# Altium footprint library Symbol.PcbLib: 206 footprints (part 14 of 15)
Each footprint in its own frame and in the unit in brackets; x right, y up, seen from the top. Pads: shape width x height; smd on the part's side, far side on the other; paste and mask are expansions set on the pad; w line width, h text height; cw(c..) or ccw(c..) is an arc to the next point about the centre after c.
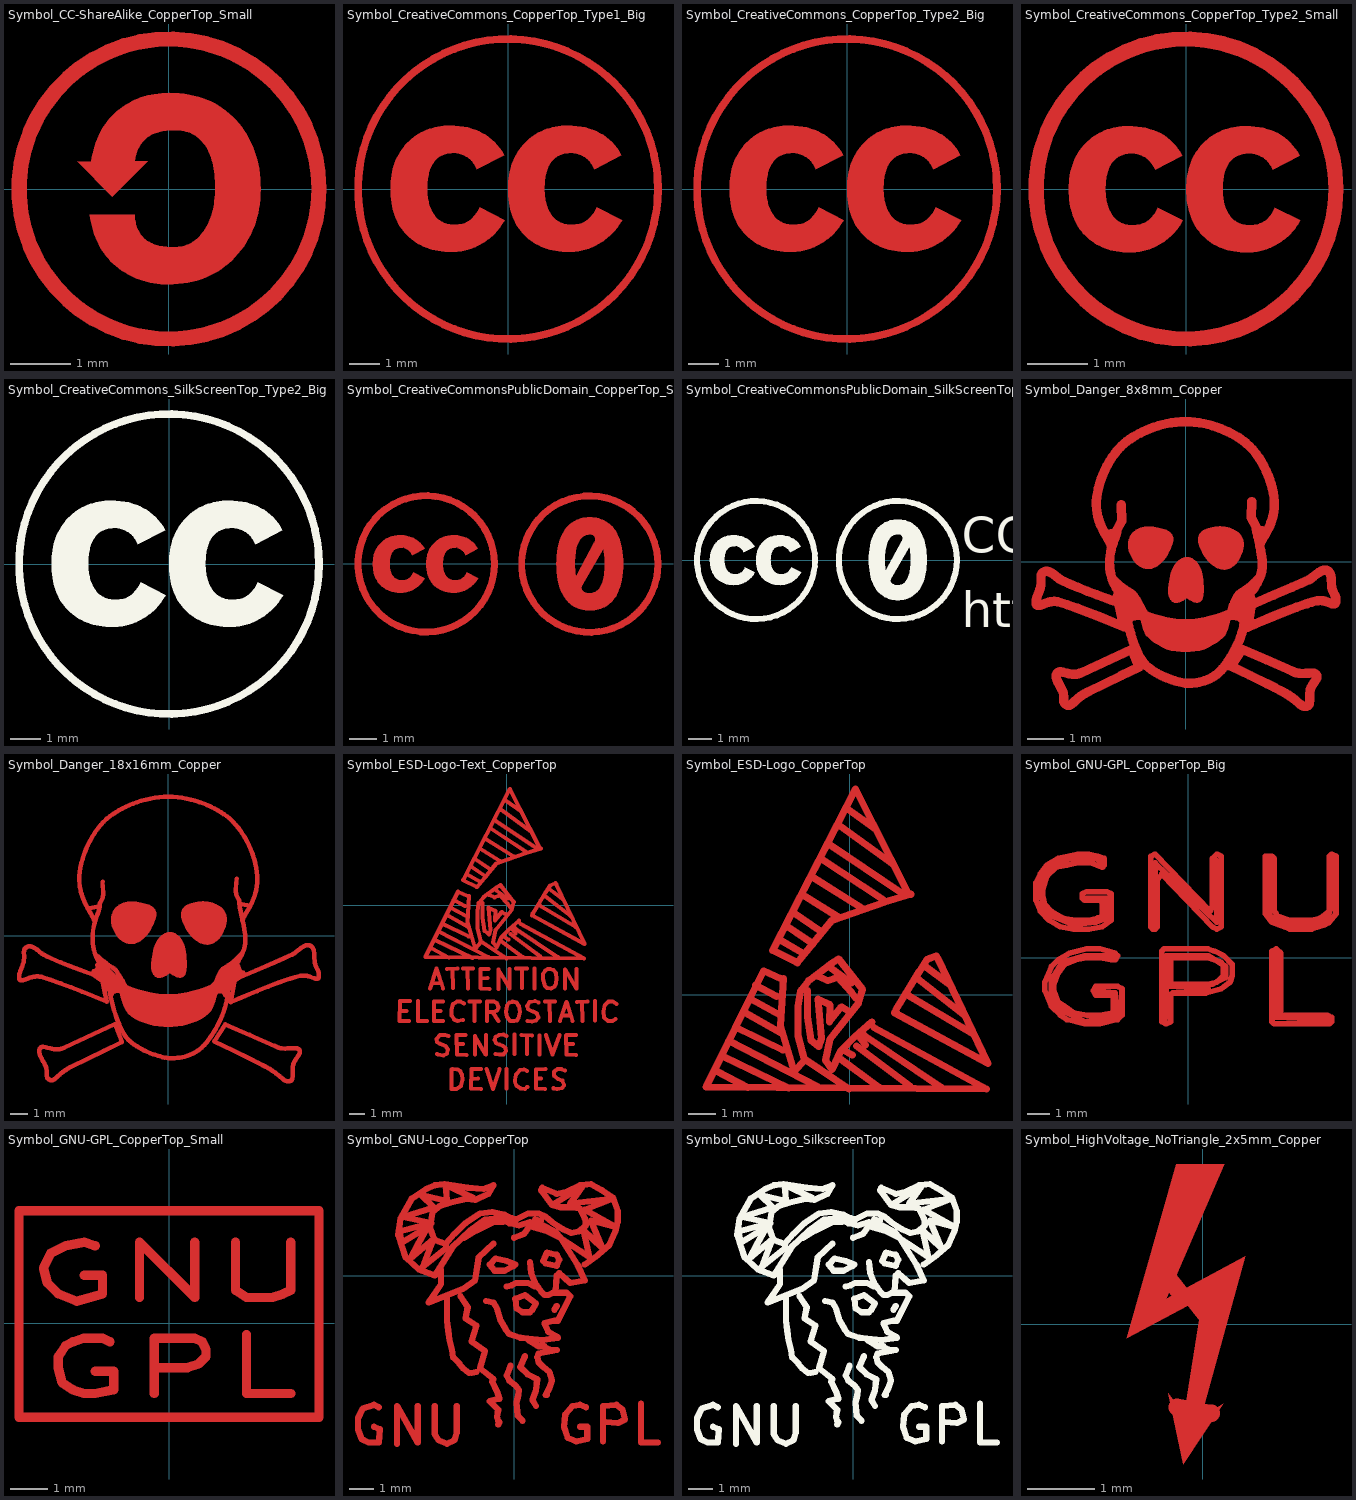
[diagram p13: the footprints below, top view; thin cyan lines are the x and y axes]

## Symbol_CC-ShareAlike_CopperTop_Small [mm]
F.Cu:
  circle w0.254: c0.001,0 r2.5
  region: 256 vertices and 0 holes, not listed, extent -1.531,-1.59 1.527,1.601

## Symbol_CreativeCommons_CopperTop_Type1_Big [mm]
F.Cu:
  circle w0.254: c0,0 r5
  region: 230 vertices and 0 holes, not listed, extent -3.913,-2.098 -0.115,2.111
  region: 231 vertices and 0 holes, not listed, extent 0.006,-2.098 3.803,2.111
  text "Commons" at 6.2,-4.575 h3
  text "Creative" at 6.2,0.354 h3

## Symbol_CreativeCommons_CopperTop_Type2_Big [mm]
F.Cu:
  circle w0.254: c0,0 r5
  region: 230 vertices and 0 holes, not listed, extent -3.913,-2.098 -0.115,2.111
  region: 231 vertices and 0 holes, not listed, extent 0.006,-2.098 3.803,2.111

## Symbol_CreativeCommons_CopperTop_Type2_Small [mm]
F.Cu:
  circle w0.254: c0,0 r2.5
  region: 230 vertices and 0 holes, not listed, extent -1.953,-1.057 -0.054,1.048
  region: 232 vertices and 0 holes, not listed, extent 0.007,-1.057 1.905,1.048

## Symbol_CreativeCommons_SilkScreenTop_Type2_Big [mm]
F.SilkS:
  drawing of 3 lines, arcs and shapes, not listed

## Symbol_CreativeCommonsPublicDomain_CopperTop_Small [mm]
F.Cu:
  circle w0.254: c-19,0 r2.5
  circle w0.254: c-13,-0.01 r2.5
  region: 230 vertices and 0 holes, not listed, extent -20.953,-1.057 -19.054,1.048
  region: 232 vertices and 0 holes, not listed, extent -18.993,-1.057 -17.095,1.048
  region: 106 vertices and 2 holes, not listed, extent -14.224,-1.706 -11.776,1.706
  text "CC-PD / Public domain" at -10.3,0.307 h1.5
  text "https://creativecommons.org" at -10.3,-2.835 h1.5

## Symbol_CreativeCommonsPublicDomain_SilkScreenTop_Small [mm]
F.SilkS:
  drawing of 5 lines, arcs and shapes, not listed
  text "https://creativecommons.org" at -10.3,-2.835 h1.5
  text "CC-PD / Public domain" at -10.3,0.307 h1.5

## Symbol_Danger_8x8mm_Copper [mm]
F.Cu:
  region: -1.2,-1.14 -1.151,-1.315 -1.13,-1.6 -1.29,-1.59 -1.43,-1.61 -1.53,-1.74 -1.708,-0.912
  region: 1.53,-1.74 1.43,-1.61 1.29,-1.59 1.13,-1.6 1.151,-1.315 1.2,-1.14 1.708,-0.912
  region: -0.988,-1.378 -0.826,-1.434 -0.666,-1.481 -0.506,-1.519 -0.346,-1.548 -0.187,-1.568 0,-1.578 0,-2.46 -0.13,-2.46 -0.254,-2.451 -0.389,-2.429 -0.521,-2.398 -0.64,-2.34 -0.75,-2.27 -0.85,-2.21 -0.92,-2.16 -1.01,-2.08 -1.08,-2.01 -1.16,-1.85 -1.2,-1.7 -1.24,-1.55 -1.257,-1.407 -1.151,-1.315
  region: 1.257,-1.407 1.24,-1.55 1.2,-1.7 1.16,-1.85 1.08,-2.01 1.01,-2.08 0.92,-2.16 0.85,-2.21 0.75,-2.27 0.64,-2.34 0.521,-2.398 0.389,-2.429 0.254,-2.451 0.13,-2.46 0,-2.46 0,-1.578 0.187,-1.568 0.346,-1.548 0.506,-1.519 0.666,-1.481 0.826,-1.434 0.988,-1.378 1.151,-1.315
  region: 0.098,0.112 0.138,0.101 0.178,0.086 0.216,0.065 0.253,0.039 0.288,0.008 0.321,-0.029 0.352,-0.07 0.38,-0.116 0.406,-0.167 0.429,-0.222 0.448,-0.283 0.464,-0.348 0.476,-0.418 0.483,-0.493 0.487,-0.572 0.493,-0.704 0.494,-0.769 0.494,-0.832 0.49,-0.892 0.487,-0.92 0.483,-0.947 0.477,-0.973 0.471,-0.997 0.463,-1.019 0.453,-1.04 0.443,-1.059 0.43,-1.075 0.416,-1.09 0.4,-1.101 0.382,-1.111 0.362,-1.117 0.34,-1.121 0.316,-1.122 0.289,-1.119 0.26,-1.113 0.229,-1.104 0.195,-1.091 0.158,-1.074 0.118,-1.054 0.076,-1.029 0.031,-1 -0.002,-1.024 -0.034,-1.045 -0.065,-1.064 -0.096,-1.08 -0.125,-1.094 -0.154,-1.105 -0.181,-1.113 -0.208,-1.119 -0.233,-1.122 -0.258,-1.123 -0.281,-1.122 -0.303,-1.118 -0.324,-1.112 -0.344,-1.103 -0.362,-1.092 -0.38,-1.078 -0.395,-1.062 -0.41,-1.044 -0.423,-1.024 -0.434,-1.001 -0.444,-0.976 -0.453,-0.949 -0.46,-0.919 -0.465,-0.888 -0.469,-0.854 -0.471,-0.818 -0.471,-0.779 -0.469,-0.739 -0.466,-0.696 -0.461,-0.652 -0.454,-0.605 -0.444,-0.556 -0.432,-0.47 -0.416,-0.391 -0.397,-0.317 -0.374,-0.249 -0.348,-0.187 -0.319,-0.131 -0.288,-0.081 -0.255,-0.037 -0.22,0.002 -0.183,0.035 -0.145,0.062 -0.105,0.084 -0.065,0.101 -0.024,0.111 0.017,0.117 0.058,0.117
  region: -0.967,0.953 -0.933,0.951 -0.871,0.945 -0.81,0.938 -0.749,0.928 -0.69,0.915 -0.634,0.9 -0.58,0.883 -0.53,0.862 -0.485,0.838 -0.464,0.825 -0.444,0.811 -0.425,0.797 -0.408,0.781 -0.393,0.765 -0.379,0.748 -0.367,0.73 -0.356,0.71 -0.347,0.69 -0.341,0.67 -0.336,0.648 -0.333,0.625 -0.333,0.601 -0.334,0.576 -0.338,0.55 -0.345,0.523 -0.362,0.465 -0.383,0.405 -0.408,0.343 -0.437,0.282 -0.469,0.221 -0.504,0.161 -0.543,0.104 -0.584,0.049 -0.628,-0.003 -0.676,-0.05 -0.7,-0.072 -0.725,-0.092 -0.751,-0.111 -0.778,-0.129 -0.805,-0.145 -0.832,-0.159 -0.861,-0.171 -0.889,-0.181 -0.919,-0.19 -0.949,-0.196 -0.979,-0.2 -1.01,-0.202 -1.041,-0.201 -1.071,-0.198 -1.101,-0.193 -1.13,-0.186 -1.159,-0.176 -1.186,-0.165 -1.214,-0.152 -1.24,-0.138 -1.266,-0.121 -1.291,-0.103 -1.315,-0.084 -1.338,-0.063 -1.36,-0.041 -1.381,-0.018 -1.402,0.006 -1.421,0.031 -1.439,0.058 -1.457,0.085 -1.473,0.112 -1.488,0.141 -1.501,0.169 -1.514,0.199 -1.525,0.228 -1.535,0.258 -1.544,0.289 -1.551,0.319 -1.557,0.349 -1.561,0.379 -1.564,0.409 -1.566,0.439 -1.566,0.468 -1.564,0.497 -1.561,0.525 -1.557,0.552 -1.551,0.579 -1.544,0.604 -1.536,0.629 -1.527,0.654 -1.517,0.677 -1.506,0.699 -1.493,0.721 -1.48,0.742 -1.465,0.762 -1.45,0.781 -1.433,0.799 -1.415,0.816 -1.396,0.832 -1.376,0.847 -1.355,0.862 -1.334,0.875 -1.311,0.887 -1.287,0.899 -1.262,0.909 -1.237,0.918 -1.21,0.926 -1.183,0.934 -1.155,0.94 -1.125,0.945 -1.095,0.948 -1.065,0.951 -1.033,0.953 -1.001,0.953
  region: 0.958,0.957 0.991,0.956 1.024,0.954 1.057,0.951 1.089,0.946 1.121,0.941 1.152,0.934 1.182,0.927 1.212,0.919 1.241,0.909 1.269,0.899 1.297,0.887 1.323,0.875 1.349,0.862 1.373,0.847 1.397,0.832 1.419,0.816 1.44,0.799 1.46,0.78 1.479,0.761 1.496,0.741 1.512,0.72 1.527,0.699 1.54,0.676 1.552,0.652 1.562,0.628 1.571,0.602 1.578,0.576 1.583,0.549 1.586,0.521 1.588,0.492 1.588,0.462 1.587,0.432 1.584,0.401 1.58,0.37 1.574,0.339 1.568,0.308 1.56,0.276 1.55,0.245 1.54,0.214 1.528,0.183 1.515,0.152 1.501,0.122 1.485,0.092 1.469,0.064 1.451,0.036 1.433,0.008 1.413,-0.018 1.392,-0.043 1.371,-0.066 1.348,-0.089 1.325,-0.11 1.301,-0.129 1.276,-0.147 1.25,-0.163 1.223,-0.177 1.196,-0.19 1.167,-0.2 1.139,-0.208 1.109,-0.213 1.079,-0.217 1.048,-0.217 1.017,-0.216 0.986,-0.212 0.956,-0.206 0.927,-0.198 0.897,-0.188 0.868,-0.176 0.84,-0.163 0.812,-0.148 0.785,-0.131 0.758,-0.113 0.732,-0.093 0.706,-0.072 0.657,-0.027 0.61,0.023 0.566,0.076 0.526,0.132 0.489,0.19 0.455,0.249 0.425,0.31 0.399,0.37 0.377,0.429 0.359,0.487 0.352,0.514 0.347,0.541 0.345,0.566 0.343,0.591 0.344,0.615 0.346,0.637 0.35,0.66 0.356,0.681 0.363,0.702 0.372,0.721 0.382,0.74 0.393,0.758 0.406,0.776 0.421,0.792 0.436,0.808 0.453,0.823 0.471,0.837 0.49,0.85 0.51,0.862 0.532,0.874 0.578,0.895 0.627,0.913 0.68,0.928 0.736,0.94 0.795,0.949 0.856,0.955 0.89,0.957 0.924,0.958
  lines w0.254: -2.039,-0.345 -2.054,-0.268 -2.065,-0.189 -2.071,-0.108 -2.073,-0.024 -2.07,0.062 -2.061,0.151 -2.047,0.242 -2.027,0.335 -2.002,0.431 -1.971,0.528 -1.933,0.628 -1.92,0.661 -1.909,0.692 -1.9,0.721 -1.892,0.748 -1.885,0.774 -1.88,0.799 -1.876,0.823 -1.873,0.846 -1.871,0.868 -1.74,1.11 -1.75,1.55 ; -2.027,0.438 -2.047,0.486 -2.07,0.533 -2.095,0.582 -2.123,0.631 -2.183,0.735 ; -1.997,-0.49 -2.02,-0.419 -1.97,-0.558 -1.939,-0.624 -1.905,-0.687 -1.88,-0.729 -1.856,-0.764 -1.833,-0.793 -1.812,-0.817 ; -1.962,0.778 -2.183,0.735 ; -1.927,-0.538 -1.846,-0.613 -1.8,-0.654 -1.75,-0.695 -1.698,-0.736 -1.643,-0.775 -1.586,-0.813 -1.527,-0.847 -1.509,-0.859 -1.49,-0.873 -1.471,-0.889 -1.453,-0.908 -1.434,-0.928 -1.416,-0.95 -1.381,-0.997 -1.347,-1.049 -1.314,-1.103 -1.284,-1.158 -1.255,-1.212 -1.167,-1.386 -1.153,-1.41 -1.143,-1.425 -1.14,-1.427 -1.137,-1.426 ; -1.911,-1.09 -1.812,-0.817 ; -1.635,-1.279 -1.648,-1.194 -1.662,-1.122 -1.676,-1.062 -1.69,-1.012 -1.705,-0.971 -1.721,-0.937 -1.737,-0.908 -1.754,-0.884 -1.772,-0.861 -1.812,-0.817 ; -1.622,-1.38 -1.61,-1.468 -1.594,-1.562 -1.574,-1.662 -1.551,-1.766 -1.524,-1.873 -1.494,-1.981 -1.461,-2.089 -1.425,-2.197 -1.387,-2.301 -1.346,-2.402 -1.303,-2.498 -1.258,-2.587 -1.212,-2.668 -1.164,-2.739 -1.114,-2.801 -1.089,-2.827 -1.064,-2.85 -0.997,-2.903 -0.929,-2.953 -0.859,-2.999 -0.788,-3.042 -0.717,-3.081 -0.645,-3.118 -0.573,-3.151 -0.502,-3.18 -0.432,-3.208 -0.362,-3.232 -0.294,-3.253 -0.228,-3.272 -0.164,-3.288 -0.102,-3.302 -0.043,-3.313 0.012,-3.322 ; -0.008,3.818 0.121,3.814 0.248,3.804 0.372,3.788 0.495,3.766 0.614,3.739 0.731,3.708 0.844,3.672 0.954,3.632 1.059,3.589 1.161,3.542 1.257,3.493 1.349,3.442 1.436,3.389 1.517,3.335 1.592,3.28 1.661,3.225 1.753,3.14 1.841,3.046 1.923,2.945 2.001,2.837 2.072,2.724 2.138,2.607 2.197,2.486 2.25,2.364 2.297,2.24 2.337,2.117 2.37,1.995 2.395,1.876 2.413,1.76 2.424,1.649 2.421,1.446 2.415,1.4 2.409,1.355 2.401,1.311 2.392,1.269 2.383,1.228 2.372,1.188 2.361,1.149 2.349,1.112 2.323,1.04 2.296,0.973 2.266,0.909 2.236,0.848 2.205,0.791 2.174,0.735 2.114,0.631 2.086,0.582 2.061,0.533 2.038,0.486 2.018,0.438 ; -0.006,-3.322 0.111,-3.321 0.174,-3.318 0.239,-3.313 0.307,-3.304 0.376,-3.292 0.447,-3.276 0.518,-3.254 0.59,-3.228 0.661,-3.196 0.697,-3.177 0.733,-3.157 0.768,-3.135 0.803,-3.112 0.838,-3.086 0.873,-3.059 0.907,-3.029 0.941,-2.998 0.974,-2.964 1.006,-2.928 1.038,-2.89 1.07,-2.85 1.149,-2.74 1.192,-2.674 1.238,-2.602 1.284,-2.525 1.331,-2.441 1.377,-2.352 1.421,-2.259 1.464,-2.161 1.503,-2.058 1.538,-1.952 1.569,-1.843 1.594,-1.731 1.604,-1.674 1.613,-1.616 1.619,-1.558 1.624,-1.499 1.627,-1.44 1.628,-1.38 ; -0.001,3.818 -0.13,3.814 -0.257,3.804 -0.382,3.788 -0.504,3.766 -0.624,3.739 -0.74,3.708 -0.853,3.672 -0.963,3.632 -1.069,3.588 -1.17,3.542 -1.267,3.493 -1.358,3.442 -1.445,3.389 -1.526,3.335 -1.601,3.28 -1.67,3.225 -1.763,3.14 -1.85,3.046 -1.933,2.945 -2.01,2.837 -2.081,2.724 -2.147,2.607 -2.206,2.486 -2.259,2.363 -2.306,2.24 -2.346,2.117 -2.379,1.995 -2.404,1.876 -2.423,1.76 -2.433,1.649 -2.436,1.544 -2.43,1.446 -2.424,1.399 -2.418,1.355 -2.41,1.311 -2.401,1.269 -2.392,1.228 -2.381,1.188 -2.37,1.149 -2.358,1.112 -2.333,1.04 -2.305,0.973 -2.275,0.909 -2.245,0.848 -2.214,0.79 -2.183,0.735 ; 1.324,-1.174 1.345,-1.118 1.368,-1.063 1.393,-1.011 1.407,-0.986 1.421,-0.962 1.437,-0.94 1.452,-0.919 1.469,-0.901 1.486,-0.884 1.504,-0.87 1.522,-0.858 1.58,-0.824 1.636,-0.787 1.689,-0.749 1.74,-0.71 1.787,-0.67 1.83,-0.632 1.87,-0.595 1.905,-0.561 1.961,-0.504 1.996,-0.466 2.007,-0.456 1.99,-0.479 ; 1.629,-1.279 1.634,-1.192 1.641,-1.118 1.652,-1.057 1.658,-1.03 1.665,-1.005 ; 1.672,-0.983 1.68,-0.962 1.698,-0.927 1.718,-0.896 1.739,-0.87 ; 1.806,1.642 1.796,1.202 1.927,0.959 1.929,0.926 1.933,0.889 1.94,0.847 1.949,0.799 1.974,0.677 2.029,0.418 2.051,0.308 2.069,0.209 2.084,0.119 2.093,0.037 2.099,-0.039 2.099,-0.074 2.099,-0.109 2.098,-0.143 2.095,-0.176 2.091,-0.208 2.085,-0.24 2.079,-0.272 2.071,-0.304 2.061,-0.337 2.051,-0.369 2.025,-0.436 1.993,-0.507 1.955,-0.582 1.911,-0.665 1.886,-0.707 1.86,-0.743 1.834,-0.773 1.809,-0.799 1.761,-0.846 1.739,-0.87 ; 1.838,-1.143 1.739,-0.87 ; 1.95,0.871 2.17,0.829 ; -4.08,-1.122 -4.081,-1.1 -4.079,-1.073 -4.076,-1.046 -4.07,-1.019 -4.062,-0.992 -4.053,-0.965 -4.042,-0.937 -4.02,-0.88 -3.996,-0.821 -3.985,-0.791 -3.975,-0.76 -3.965,-0.729 -3.957,-0.696 -3.95,-0.663 -3.946,-0.63 -3.945,-0.613 -3.944,-0.596 -3.942,-0.565 -3.942,-0.536 -3.943,-0.508 -3.945,-0.459 -3.945,-0.436 -3.945,-0.415 -3.944,-0.405 -3.943,-0.395 -3.942,-0.386 -3.94,-0.377 -3.938,-0.368 -3.935,-0.36 -3.932,-0.351 -3.928,-0.343 -3.924,-0.336 -3.918,-0.328 -3.912,-0.321 -3.905,-0.314 -3.898,-0.307 -3.889,-0.3 -3.879,-0.294 -3.869,-0.287 -3.854,-0.28 -3.839,-0.274 -3.824,-0.27 -3.808,-0.268 -3.793,-0.267 -3.778,-0.267 -3.763,-0.269 -3.747,-0.273 -3.732,-0.277 -3.716,-0.283 -3.701,-0.289 -3.686,-0.296 -3.67,-0.305 -3.655,-0.314 -3.625,-0.333 -3.595,-0.355 -3.566,-0.378 -3.509,-0.423 -3.481,-0.445 -3.455,-0.465 -3.43,-0.482 -3.417,-0.489 -3.405,-0.496 -3.304,-0.546 -3.191,-0.598 -2.944,-0.705 -2.681,-0.809 -2.424,-0.907 -1.999,-1.06 -1.823,-1.121 -1.688,-1.775 -2.362,-1.502 -2.651,-1.389 -2.945,-1.278 -3.224,-1.18 -3.464,-1.103 -3.494,-1.096 -3.523,-1.091 -3.553,-1.088 -3.582,-1.087 -3.61,-1.088 -3.639,-1.091 -3.667,-1.095 -3.694,-1.1 -3.721,-1.106 -3.747,-1.113 -3.798,-1.129 -3.847,-1.146 -3.892,-1.163 -3.933,-1.177 -3.97,-1.189 -3.986,-1.193 -4.002,-1.195 -4.016,-1.196 -4.03,-1.195 -4.041,-1.192 -4.052,-1.187 -4.056,-1.184 -4.06,-1.18 -4.064,-1.175 -4.068,-1.17 -4.073,-1.157 -4.078,-1.141 -4.08,-1.122 ; -3.529,-3.132 -3.528,-3.147 -3.526,-3.162 -3.523,-3.177 -3.519,-3.193 -3.508,-3.226 -3.495,-3.26 -3.48,-3.294 -3.463,-3.328 -3.427,-3.397 -3.39,-3.463 -3.374,-3.494 -3.359,-3.524 -3.352,-3.539 -3.346,-3.554 -3.341,-3.569 -3.338,-3.584 -3.332,-3.614 -3.329,-3.644 -3.327,-3.673 -3.327,-3.702 -3.326,-3.757 -3.325,-3.783 -3.322,-3.807 -3.32,-3.819 -3.317,-3.83 -3.313,-3.841 -3.309,-3.851 -3.303,-3.861 -3.297,-3.87 -3.29,-3.879 -3.281,-3.887 -3.271,-3.895 -3.26,-3.902 -3.248,-3.909 -3.234,-3.915 -3.22,-3.919 -3.207,-3.922 -3.195,-3.923 -3.183,-3.923 -3.172,-3.921 -3.16,-3.919 -3.149,-3.915 -3.138,-3.909 -3.127,-3.903 -3.115,-3.895 -3.104,-3.886 -3.092,-3.876 -3.066,-3.854 -3.039,-3.828 -3.008,-3.799 -2.973,-3.768 -2.934,-3.734 -2.912,-3.717 -2.889,-3.699 -2.865,-3.68 -2.839,-3.662 -2.811,-3.643 -2.781,-3.624 -2.749,-3.605 -2.716,-3.585 -2.68,-3.566 -2.642,-3.547 -1.77,-3.122 -1.273,-2.883 -1.462,-2.391 -2.841,-3.029 -2.866,-3.042 -2.891,-3.052 -2.916,-3.061 -2.941,-3.068 -2.966,-3.073 -2.99,-3.076 -3.015,-3.078 -3.039,-3.079 -3.064,-3.078 -3.088,-3.077 -3.135,-3.07 -3.18,-3.062 -3.224,-3.051 -3.307,-3.029 -3.345,-3.02 -3.381,-3.014 -3.413,-3.011 -3.428,-3.012 -3.443,-3.013 -3.456,-3.016 -3.469,-3.021 -3.481,-3.027 -3.492,-3.036 -3.502,-3.045 -3.51,-3.056 -3.517,-3.067 -3.522,-3.079 -3.525,-3.091 -3.528,-3.104 -3.529,-3.118 -3.529,-3.132 ; 1.246,-2.863 1.549,-2.398 2.213,-2.685 2.897,-2.985 2.922,-2.998 2.947,-3.01 2.972,-3.021 2.997,-3.029 3.021,-3.037 3.046,-3.043 3.096,-3.051 3.145,-3.055 3.193,-3.056 3.239,-3.055 3.285,-3.052 3.369,-3.045 3.408,-3.043 3.445,-3.043 3.478,-3.045 3.493,-3.048 3.508,-3.052 3.522,-3.056 3.534,-3.062 3.546,-3.07 3.557,-3.079 3.566,-3.088 3.573,-3.098 3.579,-3.109 3.583,-3.119 3.585,-3.13 3.586,-3.142 3.585,-3.153 3.583,-3.165 3.58,-3.177 3.576,-3.189 3.57,-3.202 3.564,-3.215 3.549,-3.241 3.532,-3.268 3.494,-3.324 3.474,-3.353 3.455,-3.383 3.438,-3.413 3.43,-3.429 3.423,-3.444 3.417,-3.459 3.411,-3.475 3.407,-3.49 3.403,-3.506 3.397,-3.552 3.392,-3.597 3.39,-3.64 3.389,-3.681 3.389,-3.757 3.389,-3.791 3.387,-3.823 3.384,-3.851 3.379,-3.876 3.376,-3.888 3.371,-3.898 3.366,-3.908 3.36,-3.917 3.353,-3.924 3.345,-3.931 3.335,-3.937 3.325,-3.942 3.313,-3.946 3.3,-3.949 3.285,-3.95 3.269,-3.951 3.254,-3.95 3.241,-3.949 3.227,-3.946 3.214,-3.943 3.202,-3.938 3.189,-3.933 3.177,-3.926 3.164,-3.919 3.152,-3.911 3.139,-3.902 3.113,-3.882 3.086,-3.859 3.056,-3.833 3.023,-3.805 2.986,-3.775 2.945,-3.742 2.923,-3.725 2.9,-3.707 2.875,-3.689 2.848,-3.671 2.82,-3.652 2.79,-3.633 2.759,-3.614 2.726,-3.594 2.69,-3.574 2.653,-3.554 2.451,-3.449 2.225,-3.335 1.765,-3.11 1.246,-2.863 ; 1.703,-1.791 1.804,-1.175 2.394,-0.924 2.909,-0.701 3.157,-0.592 3.374,-0.493 3.386,-0.487 3.399,-0.48 3.426,-0.462 3.455,-0.441 3.485,-0.417 3.549,-0.366 3.583,-0.34 3.616,-0.314 3.651,-0.291 3.685,-0.271 3.702,-0.262 3.719,-0.254 3.736,-0.247 3.753,-0.241 3.769,-0.237 3.786,-0.234 3.802,-0.233 3.818,-0.233 3.834,-0.235 3.849,-0.239 3.864,-0.245 3.879,-0.253 3.889,-0.26 3.899,-0.268 3.908,-0.276 3.916,-0.284 3.924,-0.292 3.93,-0.301 3.937,-0.311 3.943,-0.321 3.948,-0.331 3.953,-0.342 3.957,-0.352 3.961,-0.364 3.964,-0.375 3.967,-0.387 3.972,-0.412 3.975,-0.439 3.978,-0.466 3.98,-0.495 3.981,-0.525 3.983,-0.588 3.986,-0.655 3.987,-0.672 3.989,-0.688 3.991,-0.704 3.994,-0.719 3.998,-0.733 4.001,-0.747 4.01,-0.774 4.02,-0.8 4.03,-0.824 4.053,-0.869 4.074,-0.912 4.084,-0.934 4.092,-0.956 4.099,-0.979 4.102,-0.99 4.105,-1.002 4.106,-1.014 4.108,-1.027 4.108,-1.039 4.108,-1.053 4.106,-1.075 4.104,-1.094 4.1,-1.11 4.095,-1.123 4.089,-1.134 4.082,-1.143 4.073,-1.149 4.064,-1.153 4.053,-1.155 4.042,-1.155 4.029,-1.154 4.016,-1.152 4.001,-1.148 3.986,-1.143 3.952,-1.131 3.874,-1.102 3.83,-1.088 3.807,-1.081 3.783,-1.076 3.758,-1.071 3.732,-1.067 3.706,-1.065 3.679,-1.064 3.651,-1.064 3.623,-1.066 3.594,-1.07 3.564,-1.076 3.448,-1.108 3.318,-1.148 3.029,-1.247 2.721,-1.364 2.416,-1.486 1.912,-1.699 1.703,-1.791

## Symbol_Danger_18x16mm_Copper [mm]
F.Cu:
  region: -2.409,-2.777 -2.07,-2.909 -1.734,-3.025 -1.399,-3.123 -1.066,-3.203 -0.733,-3.264 -0.401,-3.305 -0.068,-3.327 0,-3.327 0,-5.18 -0.256,-5.17 -0.541,-5.144 -0.823,-5.098 -1.097,-5.034 -1.361,-4.95 -1.612,-4.849 -1.848,-4.73 -2.066,-4.593 -2.263,-4.439 -2.4,-4.25 -2.53,-4.01 -2.63,-3.74 -2.69,-3.5 -2.76,-3.27 -2.89,-3.22 -3.08,-3.29 -3.19,-3.48 -3.82,-2.66 -4.47,-2.2 -4.3,-1.91 -4.18,-1.88 -4.12,-1.8 -4.15,-1.61 -3.856,-1.336
  region: 4.105,-1.686 4.12,-1.84 4.2,-1.96 4.325,-1.996 4.47,-2.2 3.82,-2.66 3.19,-3.48 3.08,-3.29 2.95,-3.25 2.82,-3.27 2.73,-3.5 2.66,-3.72 2.56,-3.99 2.436,-4.268 2.263,-4.439 2.066,-4.593 1.848,-4.73 1.612,-4.849 1.361,-4.95 1.097,-5.034 0.823,-5.098 0.541,-5.144 0.256,-5.17 0,-5.18 0,-3.327 0.068,-3.327 0.401,-3.305 0.733,-3.264 1.066,-3.203 1.399,-3.123 1.734,-3.025 2.07,-2.909 2.409,-2.777 3.856,-1.336
  region: -0.914,-1.197
  region: -0.914,-1.197
  region: 0.217,0.195 0.3,0.173 0.382,0.14 0.462,0.096 0.539,0.042 0.612,-0.023 0.681,-0.098 0.745,-0.183 0.805,-0.279 0.858,-0.385 0.905,-0.502 0.946,-0.628 0.978,-0.764 1.003,-0.909 1.019,-1.065 1.026,-1.23 1.039,-1.504 1.042,-1.64 1.041,-1.771 1.033,-1.896 1.026,-1.955 1.018,-2.011 1.006,-2.065 0.993,-2.115 0.976,-2.162 0.957,-2.205 0.934,-2.244 0.908,-2.279 0.879,-2.308 0.846,-2.333 0.808,-2.352 0.767,-2.366 0.721,-2.374 0.67,-2.375 0.615,-2.37 0.555,-2.358 0.489,-2.338 0.418,-2.311 0.341,-2.277 0.259,-2.234 0.171,-2.183 0.076,-2.123 0.008,-2.172 -0.059,-2.216 -0.124,-2.255 -0.187,-2.289 -0.248,-2.317 -0.308,-2.339 -0.365,-2.357 -0.421,-2.369 -0.474,-2.376 -0.525,-2.379 -0.573,-2.375 -0.62,-2.367 -0.663,-2.354 -0.704,-2.336 -0.743,-2.313 -0.779,-2.285 -0.812,-2.252 -0.842,-2.214 -0.869,-2.171 -0.893,-2.124 -0.914,-2.072 -0.931,-2.015 -0.946,-1.954 -0.957,-1.888 -0.964,-1.817 -0.968,-1.742 -0.969,-1.662 -0.965,-1.578 -0.958,-1.489 -0.947,-1.396 -0.933,-1.298 -0.914,-1.197 -0.888,-1.018 -0.855,-0.852 -0.814,-0.699 -0.767,-0.557 -0.713,-0.429 -0.653,-0.312 -0.588,-0.208 -0.519,-0.115 -0.446,-0.034 -0.369,0.034 -0.289,0.092 -0.207,0.137 -0.123,0.171 -0.039,0.194 0.047,0.205 0.132,0.205
  region: -2.003,1.946 -1.932,1.942 -1.803,1.931 -1.675,1.915 -1.549,1.895 -1.426,1.869 -1.308,1.837 -1.197,1.8 -1.093,1.757 -0.997,1.708 -0.953,1.681 -0.912,1.652 -0.874,1.622 -0.838,1.589 -0.806,1.555 -0.777,1.519 -0.751,1.482 -0.73,1.442 -0.712,1.4 -0.697,1.356 -0.688,1.311 -0.682,1.263 -0.681,1.213 -0.684,1.161 -0.692,1.107 -0.706,1.051 -0.742,0.929 -0.787,0.804 -0.839,0.677 -0.898,0.549 -0.965,0.422 -1.038,0.298 -1.118,0.178 -1.204,0.063 -1.297,-0.044 -1.395,-0.143 -1.446,-0.188 -1.499,-0.231 -1.553,-0.27 -1.608,-0.307 -1.664,-0.34 -1.722,-0.369 -1.781,-0.395 -1.841,-0.416 -1.902,-0.434 -1.964,-0.446 -2.027,-0.455 -2.092,-0.458 -2.156,-0.457 -2.219,-0.451 -2.281,-0.44 -2.342,-0.425 -2.401,-0.406 -2.46,-0.383 -2.516,-0.356 -2.571,-0.325 -2.625,-0.291 -2.677,-0.254 -2.727,-0.213 -2.775,-0.17 -2.821,-0.124 -2.866,-0.076 -2.908,-0.026 -2.948,0.027 -2.986,0.082 -3.022,0.138 -3.056,0.195 -3.087,0.255 -3.115,0.315 -3.142,0.376 -3.165,0.438 -3.186,0.5 -3.204,0.563 -3.219,0.626 -3.231,0.689 -3.24,0.751 -3.246,0.814 -3.249,0.875 -3.249,0.936 -3.246,0.996 -3.24,1.055 -3.231,1.112 -3.219,1.167 -3.205,1.221 -3.189,1.273 -3.17,1.323 -3.149,1.372 -3.125,1.419 -3.099,1.464 -3.071,1.507 -3.04,1.549 -3.008,1.588 -2.973,1.626 -2.936,1.662 -2.896,1.695 -2.855,1.727 -2.812,1.757 -2.766,1.785 -2.719,1.81 -2.669,1.834 -2.618,1.855 -2.564,1.875 -2.509,1.892 -2.452,1.907 -2.393,1.919 -2.332,1.93 -2.27,1.938 -2.206,1.943 -2.14,1.947 -2.072,1.948
  region: 2.008,1.956 2.077,1.954 2.146,1.949 2.214,1.942 2.281,1.933 2.347,1.922 2.412,1.908 2.475,1.893 2.537,1.875 2.598,1.856 2.656,1.834 2.713,1.81 2.769,1.784 2.822,1.757 2.873,1.727 2.922,1.695 2.968,1.661 3.012,1.625 3.054,1.588 3.093,1.548 3.13,1.506 3.163,1.463 3.194,1.417 3.221,1.37 3.246,1.32 3.267,1.269 3.284,1.216 3.299,1.162 3.309,1.105 3.316,1.046 3.32,0.986 3.32,0.925 3.318,0.862 3.312,0.798 3.304,0.733 3.292,0.668 3.278,0.603 3.261,0.537 3.242,0.472 3.22,0.407 3.195,0.342 3.168,0.279 3.138,0.216 3.106,0.154 3.072,0.094 3.036,0.036 2.997,-0.021 2.956,-0.075 2.913,-0.127 2.868,-0.177 2.821,-0.223 2.773,-0.267 2.722,-0.308 2.67,-0.345 2.616,-0.378 2.56,-0.408 2.503,-0.433 2.444,-0.454 2.384,-0.471 2.323,-0.483 2.26,-0.49 2.196,-0.491 2.131,-0.488 2.067,-0.48 2.005,-0.467 1.943,-0.451 1.881,-0.43 1.821,-0.406 1.762,-0.378 1.704,-0.346 1.647,-0.311 1.591,-0.273 1.537,-0.232 1.483,-0.189 1.38,-0.094 1.283,0.009 1.192,0.12 1.108,0.237 1.03,0.358 0.96,0.481 0.897,0.607 0.843,0.732 0.797,0.856 0.76,0.976 0.746,1.033 0.736,1.088 0.73,1.141 0.728,1.192 0.729,1.242 0.734,1.29 0.742,1.336 0.754,1.38 0.769,1.423 0.787,1.464 0.808,1.504 0.832,1.541 0.859,1.577 0.888,1.612 0.921,1.644 0.956,1.675 0.993,1.705 1.033,1.732 1.076,1.758 1.12,1.783 1.216,1.827 1.319,1.864 1.429,1.896 1.546,1.92 1.668,1.939 1.795,1.951 1.866,1.955 1.937,1.957
  lines w0.254: -4.485,1.572 -3.915,1.688 ; -4.211,0.875 -4.252,0.973 -4.3,1.073 -4.353,1.174 -4.411,1.277 -4.536,1.494 -4.6,1.608 -4.665,1.729 -4.728,1.855 -4.789,1.988 -4.847,2.129 -4.901,2.278 -4.926,2.356 -4.949,2.437 -4.971,2.519 -4.991,2.605 -5.009,2.693 -5.025,2.784 -5.038,2.877 -5.05,2.974 -5.062,3.178 -5.056,3.397 -5.035,3.628 -4.997,3.869 -4.944,4.118 -4.875,4.372 -4.792,4.628 -4.695,4.886 -4.584,5.141 -4.46,5.392 -4.324,5.637 -4.175,5.873 -4.014,6.097 -3.842,6.308 -3.66,6.503 -3.467,6.68 -3.323,6.796 -3.167,6.91 -2.998,7.023 -2.818,7.133 -2.627,7.239 -2.425,7.341 -2.214,7.438 -1.994,7.528 -1.766,7.611 -1.53,7.686 -1.287,7.752 -1.037,7.808 -0.783,7.853 -0.523,7.887 -0.259,7.908 0.009,7.916 ; -4.003,-1.16 -3.834,-1.316 -3.738,-1.4 -3.634,-1.486 -3.525,-1.571 -3.411,-1.653 -3.292,-1.731 -3.17,-1.803 -3.131,-1.827 -3.092,-1.857 -3.053,-1.891 ; -3.895,1.676 -3.903,1.627 -3.915,1.575 -3.928,1.521 -3.945,1.463 -3.965,1.402 -3.988,1.338 -4.015,1.27 -4.093,1.063 -4.158,0.859 -4.211,0.66 -4.252,0.466 -4.281,0.277 -4.299,0.092 -4.306,-0.088 -4.303,-0.263 -4.29,-0.433 -4.268,-0.597 -4.236,-0.756 -4.196,-0.91 -4.147,-1.059 -4.091,-1.201 -4.028,-1.339 -3.957,-1.47 -3.904,-1.557 -3.854,-1.629 -3.806,-1.69 -3.762,-1.741 -3.68,-1.833 -3.642,-1.879 -3.606,-1.93 -3.572,-1.99 -3.54,-2.061 ; -3.889,1.724 -3.886,1.769 ; -3.884,1.813 -3.885,1.855 -3.72,2.2 -3.69,2.38 -3.74,3.09 ; -3.367,-2.914 -3.342,-3.096 -3.308,-3.292 -3.267,-3.501 -3.218,-3.717 -3.162,-3.94 -3.1,-4.165 -3.031,-4.391 -2.957,-4.615 -2.877,-4.833 -2.792,-5.043 -2.703,-5.242 -2.61,-5.427 -2.513,-5.596 -2.412,-5.745 -2.31,-5.873 -2.257,-5.928 -2.204,-5.976 -2.065,-6.087 -1.923,-6.19 -1.777,-6.287 -1.63,-6.376 -1.481,-6.458 -1.332,-6.533 -1.182,-6.602 -1.034,-6.664 -0.887,-6.721 -0.742,-6.771 -0.6,-6.816 -0.462,-6.855 -0.329,-6.888 -0.201,-6.917 -0.078,-6.94 0.038,-6.959 ; -3.008,-1.929 -2.726,-2.337 -2.662,-2.451 -2.602,-2.563 -2.419,-2.925 ; -2.39,-2.977 -2.369,-3.006 -2.362,-3.011 -2.357,-3.009 -2.354,-3 -2.354,-2.984 ; -0.004,7.916 0.264,7.908 0.528,7.887 0.788,7.854 1.043,7.808 1.292,7.752 1.535,7.686 1.771,7.611 1.999,7.528 2.219,7.438 2.431,7.341 2.632,7.239 2.823,7.133 3.004,7.023 3.172,6.91 3.329,6.796 3.472,6.681 3.665,6.504 3.848,6.309 4.019,6.097 4.18,5.873 4.329,5.637 4.466,5.392 4.59,5.141 4.7,4.886 4.797,4.629 4.881,4.372 4.949,4.118 5.002,3.87 5.04,3.629 5.062,3.397 5.067,3.178 5.055,2.974 5.044,2.878 5.03,2.784 5.014,2.693 4.996,2.605 4.976,2.52 4.955,2.437 4.931,2.356 4.906,2.278 4.853,2.129 4.795,1.988 4.733,1.855 4.67,1.729 4.606,1.609 4.541,1.494 4.417,1.277 4.359,1.174 4.305,1.073 4.257,0.974 4.216,0.875 ; -0.001,-6.959 0.243,-6.958 0.375,-6.952 0.511,-6.94 0.652,-6.922 0.796,-6.897 0.943,-6.862 1.091,-6.818 1.24,-6.763 1.39,-6.696 1.464,-6.658 1.539,-6.616 1.612,-6.57 1.686,-6.521 1.758,-6.468 1.83,-6.411 1.901,-6.349 1.972,-6.284 2.041,-6.214 2.109,-6.139 2.176,-6.06 2.241,-5.976 2.405,-5.746 2.496,-5.61 2.591,-5.46 2.688,-5.298 2.785,-5.124 2.881,-4.939 2.974,-4.744 3.062,-4.54 3.143,-4.327 3.217,-4.106 3.281,-3.878 3.333,-3.644 3.354,-3.525 3.372,-3.405 3.386,-3.284 3.396,-3.161 3.402,-3.038 ; 2.602,-3.031 2.603,-3.056 2.605,-3.058 2.608,-3.052 2.631,-2.969 2.672,-2.808 2.733,-2.599 2.771,-2.484 2.814,-2.368 2.862,-2.253 2.915,-2.144 2.944,-2.092 2.974,-2.043 3.005,-1.997 3.038,-1.954 3.072,-1.915 3.108,-1.881 3.145,-1.851 3.183,-1.827 3.304,-1.755 3.421,-1.679 3.532,-1.599 3.637,-1.517 3.735,-1.435 3.825,-1.355 3.908,-1.278 3.981,-1.207 4.098,-1.087 4.17,-1.01 4.193,-0.988 4.159,-1.037 ; 3.638,-1.87 3.902,-2.33 ; 3.681,-1.801 3.782,-1.703 3.834,-1.648 3.887,-1.586 3.941,-1.512 3.994,-1.423 4.086,-1.252 4.165,-1.094 4.231,-0.947 4.284,-0.807 4.307,-0.74 4.326,-0.673 4.343,-0.606 4.357,-0.539 4.368,-0.472 4.376,-0.405 4.382,-0.336 4.385,-0.265 4.386,-0.193 4.384,-0.119 4.373,0.038 4.353,0.209 4.324,0.396 4.286,0.603 4.24,0.832 4.125,1.371 4.072,1.625 4.054,1.726 4.04,1.814 4.031,1.891 4.026,1.96 4.025,2.024 3.86,2.368 3.83,2.548 3.88,3.258 ; 4.055,1.828 4.625,1.712 ; -8.489,-2.33 -8.488,-2.376 -8.483,-2.415 -8.474,-2.448 -8.462,-2.475 -8.455,-2.486 -8.447,-2.496 -8.438,-2.504 -8.428,-2.511 -8.407,-2.522 -8.383,-2.528 -8.355,-2.53 -8.325,-2.528 -8.293,-2.523 -8.258,-2.515 -8.181,-2.491 -8.095,-2.461 -8.002,-2.426 -7.901,-2.39 -7.795,-2.357 -7.74,-2.343 -7.684,-2.33 -7.626,-2.319 -7.568,-2.31 -7.509,-2.305 -7.449,-2.303 -7.389,-2.305 -7.328,-2.311 -7.267,-2.321 -7.205,-2.336 -6.704,-2.496 -6.124,-2.701 -5.51,-2.932 -4.908,-3.166 -3.505,-3.737 -3.786,-2.373 -4.152,-2.247 -5.037,-1.928 -5.574,-1.724 -6.12,-1.506 -6.636,-1.285 -6.871,-1.177 -7.082,-1.072 -7.107,-1.058 -7.133,-1.042 -7.186,-1.006 -7.241,-0.965 -7.297,-0.92 -7.416,-0.825 -7.477,-0.778 -7.539,-0.733 -7.602,-0.692 -7.634,-0.673 -7.666,-0.656 -7.698,-0.641 -7.73,-0.627 -7.762,-0.616 -7.794,-0.606 -7.826,-0.6 -7.858,-0.596 -7.89,-0.594 -7.922,-0.596 -7.954,-0.601 -7.985,-0.609 -8.017,-0.621 -8.048,-0.637 -8.07,-0.65 -8.09,-0.664 -8.108,-0.678 -8.124,-0.692 -8.138,-0.707 -8.151,-0.722 -8.162,-0.738 -8.171,-0.754 -8.179,-0.771 -8.186,-0.788 -8.192,-0.805 -8.197,-0.824 -8.2,-0.843 -8.203,-0.862 -8.205,-0.882 -8.206,-0.903 -8.207,-0.947 -8.206,-0.994 -8.202,-1.098 -8.201,-1.155 -8.201,-1.216 -8.203,-1.281 -8.206,-1.315 -8.209,-1.35 -8.218,-1.42 -8.231,-1.489 -8.248,-1.556 -8.268,-1.622 -8.29,-1.686 -8.313,-1.749 -8.362,-1.871 -8.41,-1.99 -8.431,-2.048 -8.45,-2.105 -8.466,-2.162 -8.478,-2.218 -8.486,-2.274 -8.489,-2.33 ; -7.34,-6.564 -7.338,-6.594 -7.333,-6.626 -7.327,-6.658 -7.319,-6.691 -7.297,-6.759 -7.27,-6.829 -7.238,-6.9 -7.203,-6.972 -7.127,-7.116 -7.051,-7.253 -7.016,-7.318 -6.985,-7.38 -6.971,-7.411 -6.959,-7.443 -6.949,-7.474 -6.941,-7.505 -6.929,-7.568 -6.922,-7.63 -6.919,-7.691 -6.918,-7.751 -6.917,-7.865 -6.915,-7.919 -6.909,-7.97 -6.904,-7.994 -6.898,-8.018 -6.89,-8.04 -6.881,-8.062 -6.87,-8.082 -6.857,-8.102 -6.841,-8.12 -6.823,-8.137 -6.803,-8.153 -6.78,-8.168 -6.754,-8.182 -6.724,-8.194 -6.697,-8.203 -6.67,-8.209 -6.644,-8.212 -6.62,-8.211 -6.595,-8.208 -6.572,-8.202 -6.548,-8.194 -6.525,-8.182 -6.502,-8.169 -6.478,-8.153 -6.454,-8.135 -6.429,-8.114 -6.376,-8.068 -6.319,-8.014 -6.254,-7.954 -6.182,-7.888 -6.1,-7.818 -6.055,-7.781 -6.007,-7.744 -5.956,-7.706 -5.901,-7.667 -5.843,-7.628 -5.781,-7.588 -5.716,-7.548 -5.646,-7.508 -5.572,-7.468 -5.493,-7.428 -3.676,-6.543 -2.639,-6.045 -3.033,-5.019 -5.906,-6.349 -5.958,-6.375 -6.01,-6.398 -6.062,-6.416 -6.114,-6.43 -6.166,-6.44 -6.218,-6.447 -6.269,-6.451 -6.32,-6.453 -6.37,-6.451 -6.42,-6.448 -6.518,-6.435 -6.613,-6.417 -6.705,-6.395 -6.877,-6.35 -6.957,-6.331 -7.03,-6.317 -7.098,-6.312 -7.13,-6.312 -7.16,-6.316 -7.189,-6.322 -7.215,-6.332 -7.24,-6.346 -7.263,-6.363 -7.283,-6.383 -7.3,-6.405 -7.314,-6.428 -7.324,-6.453 -7.332,-6.479 -7.337,-6.506 -7.34,-6.534 -7.34,-6.564 ; 2.609,-6.002 3.238,-5.035 4.622,-5.633 6.048,-6.256 6.1,-6.285 6.151,-6.31 6.203,-6.331 6.255,-6.349 6.307,-6.365 6.359,-6.377 6.462,-6.394 6.564,-6.403 6.663,-6.405 6.761,-6.402 6.855,-6.396 7.032,-6.383 7.113,-6.378 7.188,-6.378 7.258,-6.383 7.29,-6.388 7.32,-6.396 7.349,-6.406 7.375,-6.418 7.4,-6.434 7.422,-6.452 7.442,-6.472 7.457,-6.493 7.469,-6.515 7.477,-6.537 7.481,-6.56 7.483,-6.583 7.481,-6.607 7.477,-6.632 7.471,-6.657 7.462,-6.683 7.451,-6.709 7.438,-6.735 7.407,-6.79 7.371,-6.846 7.291,-6.964 7.25,-7.024 7.211,-7.086 7.175,-7.149 7.158,-7.181 7.144,-7.213 7.13,-7.245 7.119,-7.278 7.11,-7.31 7.103,-7.343 7.088,-7.439 7.079,-7.533 7.075,-7.622 7.073,-7.708 7.073,-7.866 7.072,-7.937 7.069,-8.002 7.063,-8.061 7.052,-8.114 7.045,-8.138 7.036,-8.16 7.025,-8.18 7.012,-8.198 6.997,-8.214 6.98,-8.229 6.961,-8.241 6.939,-8.251 6.914,-8.259 6.887,-8.265 6.856,-8.268 6.822,-8.269 6.792,-8.268 6.764,-8.265 6.736,-8.259 6.709,-8.252 6.682,-8.243 6.656,-8.231 6.63,-8.218 6.604,-8.203 6.578,-8.187 6.552,-8.168 6.498,-8.126 6.44,-8.078 6.378,-8.025 6.31,-7.966 6.234,-7.902 6.149,-7.834 6.102,-7.798 6.053,-7.762 6.001,-7.724 5.946,-7.686 5.888,-7.647 5.826,-7.607 5.76,-7.567 5.69,-7.525 5.617,-7.484 5.539,-7.442 5.119,-7.224 4.649,-6.987 3.689,-6.518 2.609,-6.002 ; 3.559,-3.769 3.771,-2.486 5,-1.964 6.073,-1.499 6.589,-1.271 7.041,-1.066 7.066,-1.053 7.093,-1.038 7.15,-1.001 7.21,-0.957 7.273,-0.907 7.407,-0.8 7.476,-0.746 7.547,-0.694 7.618,-0.645 7.689,-0.602 7.725,-0.584 7.76,-0.567 7.795,-0.553 7.83,-0.541 7.865,-0.532 7.899,-0.526 7.933,-0.523 7.966,-0.524 7.999,-0.529 8.031,-0.537 8.063,-0.549 8.093,-0.566 8.115,-0.581 8.135,-0.596 8.153,-0.612 8.171,-0.63 8.186,-0.648 8.201,-0.666 8.214,-0.686 8.226,-0.707 8.237,-0.728 8.247,-0.75 8.256,-0.773 8.263,-0.796 8.27,-0.82 8.277,-0.845 8.287,-0.898 8.294,-0.952 8.3,-1.01 8.304,-1.07 8.306,-1.132 8.311,-1.263 8.316,-1.403 8.319,-1.438 8.323,-1.472 8.328,-1.504 8.334,-1.536 8.341,-1.566 8.348,-1.596 8.366,-1.652 8.387,-1.704 8.409,-1.754 8.455,-1.849 8.5,-1.939 8.521,-1.984 8.538,-2.03 8.553,-2.077 8.559,-2.101 8.564,-2.126 8.567,-2.151 8.57,-2.177 8.571,-2.204 8.57,-2.231 8.567,-2.277 8.562,-2.317 8.554,-2.351 8.543,-2.379 8.53,-2.401 8.515,-2.419 8.498,-2.432 8.478,-2.44 8.457,-2.444 8.433,-2.445 8.407,-2.443 8.379,-2.437 8.348,-2.429 8.316,-2.419 8.246,-2.394 8.083,-2.334 7.991,-2.305 7.943,-2.291 7.893,-2.279 7.841,-2.269 7.788,-2.262 7.733,-2.256 7.677,-2.254 7.619,-2.255 7.56,-2.259 7.5,-2.268 7.438,-2.281 7.196,-2.346 6.925,-2.429 6.323,-2.637 5.68,-2.881 5.046,-3.135 3.996,-3.578 3.559,-3.769

## Symbol_ESD-Logo-Text_CopperTop [mm]
F.Cu:
  lines w0.254: -6.749,-6.721 -6.37,-6.731 ; -6.21,-7.371 -6.8,-7.371 -6.789,-6.111 -6.149,-6.111 ; -5.631,-6.101 -5.639,-7.371 -5.05,-7.371 ; -4.869,-5.311 -4.46,-4.041 -4.031,-5.311 ; -4.77,-2.751 -3.65,-3.343 ; -4.75,-4.961 -4.15,-4.971 ; -4.6,-6.129 -4.61,-6.119 ; -4.559,-6.731 -4.209,-6.731 ; -4.559,-2.222 -2.179,-3.36 ; -4.43,-9.469 -4.361,-9.489 -4.021,-9.55 -3.79,-9.441 -3.739,-9.169 -3.871,-8.961 -4.201,-8.829 -4.43,-8.71 -4.45,-8.499 -4.219,-8.27 -3.909,-8.26 -3.701,-8.321 ; -4.341,-1.661 -1.14,-3.312 ; -4.041,-7.381 -4.61,-7.381 -4.61,-6.119 ; -4.041,-6.119 -4.61,-6.119 ; -4.031,-1.201 -2.41,-1.991 -2.38,-1.991 ; -3.79,-4.049 -3.109,-4.041 ; -3.749,-0.653 -2.461,-1.382 ; -3.551,-0.163 -2.479,-0.752 ; -3.5,-10.439 -3.5,-11.679 -3.18,-11.679 -2.911,-11.501 -2.799,-11.1 -2.84,-10.77 -2.959,-10.531 -3.129,-10.439 -3.429,-10.429 ; -3.449,-4.049 -3.419,-5.281 ; -3.371,0.338 -2.629,-0.061 ; -3.18,-8.27 -3.16,-9.5 -2.56,-9.53 ; -3.17,-8.829 -2.771,-8.839 ; -3.15,-8.26 -2.601,-8.26 ; -2.779,-4.041 -2.141,-4.031 ; -2.771,-7.29 -3.119,-7.371 -3.33,-7.269 -3.49,-7.021 -3.51,-6.66 -3.411,-6.289 -3.16,-6.139 -2.939,-6.139 -2.7,-6.251 ; -2.51,1.968 -1.689,1.488 ; -2.469,-4.059 -2.461,-5.311 ; -2.461,0.569 -3.091,0.848 -5.151,-3.312 4.91,-3.391 0.869,-1.181 ; -2.38,0.579 -2.489,-1.102 -1.991,-2.771 -1.621,-2.352 -1.849,-1.481 -1.849,-0.422 -1.77,0.119 -1.72,0.168 -1.471,0.498 -0.63,1.128 -0.401,1.278 0.46,0.188 0.31,-0.323 -0.701,-1.593 -0.861,-2.372 -0.63,-2.682 -0.32,-2.022 0.191,-1.511 0.8,-0.98 ; -2.349,-6.119 -1.679,-6.119 ; -2.23,2.449 -1.311,1.819 -1.311,1.839 ; -2.159,-11.021 -2.159,-11.039 -1.821,-11.011 ; -2.05,-6.5 -2.029,-7.371 ; -2.05,2.959 -1.031,2.268 ; -2.04,-6.52 -2.029,-6.129 -2.009,-6.129 ; -2.009,-9.5 -2.009,-8.331 -1.321,-9.51 -1.321,-8.27 ; -1.88,1.138 -0.65,2.649 1.25,3.317 2.2,3.599 ; -1.869,1.158 -1.9,1.158 -2.761,1.587 0.211,7.379 2.09,3.647 ; -1.72,3.599 -0.45,2.809 -0.419,2.809 ; -1.661,-4.049 -1.661,-5.281 -1.651,-5.281 ; -1.651,-4.049 -1.14,-4.049 ; -1.641,-11.679 -2.261,-11.661 -2.23,-10.419 -1.631,-10.419 ; -1.631,-5.301 -1.641,-5.301 -1.1,-5.319 ; -1.6,-4.651 -1.621,-4.651 -1.199,-4.641 ; -1.539,-2.372 -0.02,-3.391 ; -1.519,0.14 -1.519,-0.803 -1.389,-1.641 -1.11,-1.872 -1.011,-1.562 -1.14,-0.163 -0.701,-0.371 -0.729,-0.98 -0.3,-0.442 -0.071,-0.572 ; -1.359,4.229 0.46,3.089 ; -1.28,-10.409 -0.861,-11.679 -0.439,-10.419 ; -1.229,-7.361 -1.229,-6.139 -0.79,-6.129 -0.599,-6.241 -0.511,-6.5 -0.599,-6.69 -0.77,-6.779 -1.171,-6.779 -1.161,-6.779 ; -1.11,0.648 -0.78,0.498 -0.419,0.617 0.061,0.089 0.239,-0.142 ; -1.011,4.869 1.199,3.419 ; -0.879,-6.82 -0.521,-7.361 ; -0.749,5.397 1.859,3.647 ; -0.719,-9.469 -0.45,-9.51 -0.211,-9.489 -0.041,-9.289 -0.071,-9.091 -0.239,-8.941 -0.46,-8.87 -0.66,-8.781 -0.759,-8.59 -0.691,-8.379 -0.48,-8.26 -0.211,-8.23 0,-8.321 ; -0.65,0.93 0.061,0.419 ; -0.511,-5.329 -0.521,-4.089 0.191,-5.291 0.191,-4.059 ; -0.351,-2.301 1.021,-3.312 1.049,-3.312 ; -0.351,6.058 1.58,4.658 ; -0.221,-1.991 0.079,-2.172 0.109,-2.172 ; -0.089,6.667 0.95,5.928 ; 0,-11.661 0,-10.419 ; 0.239,-1.841 2.169,-3.292 ; 0.31,-1.46 0.569,-1.811 ; 0.361,-6.17 0.18,-6.18 0.03,-6.37 -0.041,-6.789 0.03,-7.109 0.239,-7.371 0.46,-7.381 0.65,-7.33 0.77,-7.17 0.841,-6.789 0.78,-6.421 0.64,-6.2 0.391,-6.129 ; 0.511,-9.479 0.511,-8.219 ; 0.521,-1.46 3.259,-3.312 3.279,-3.312 ; 0.61,-4.041 1.311,-4.041 ; 0.96,-8.27 1.631,-8.28 ; 0.97,-4.069 0.991,-5.281 ; 1.29,-8.291 1.3,-9.479 1.311,-9.479 ; 1.311,-10.531 1.1,-10.439 0.851,-10.49 0.599,-10.78 0.521,-11.181 0.62,-11.481 0.899,-11.651 1.161,-11.689 1.311,-11.57 1.321,-11.56 ; 1.321,-7.361 1.631,-7.399 1.88,-7.32 2.029,-7.15 1.92,-6.881 1.669,-6.769 1.369,-6.609 1.311,-6.421 1.45,-6.17 1.811,-6.111 2.04,-6.18 ; 1.659,-0.541 2.169,0.29 2.499,0.828 2.779,1.257 3.109,1.389 ; 1.679,-0.622 1.61,-0.653 4.961,-2.471 3.16,1.308 ; 1.77,-5.291 1.781,-4.031 ; 1.89,-11.021 2.2,-11.011 ; 2.09,-9.489 2.101,-8.291 ; 2.121,-0.041 4.379,-1.382 ; 2.431,-6.119 3.081,-6.119 ; 2.451,-11.679 1.88,-11.661 1.869,-10.439 2.479,-10.419 ; 2.451,0.569 4.1,-0.721 ; 2.51,-8.27 2.921,-9.489 3.36,-8.27 ; 2.639,-4.059 2.431,-4.181 2.319,-4.389 2.319,-4.709 2.431,-5.141 2.601,-5.281 2.809,-5.301 3.04,-5.189 3.15,-4.971 3.16,-4.671 3.15,-4.331 2.979,-4.12 2.751,-4.049 ; 2.7,1.029 3.541,0.399 ; 2.741,-6.129 2.761,-7.371 ; 2.99,-11.641 2.979,-11.651 3.211,-11.689 3.52,-11.641 3.66,-11.45 3.541,-11.161 3.279,-11.059 3,-10.841 3,-10.599 3.231,-10.429 3.5,-10.429 3.721,-10.521 ; 3.381,-7.381 3.8,-6.149 4.201,-7.371 ; 3.51,-7.021 4.041,-7.021 ; 3.711,-5.291 3.721,-4.1 4.44,-5.301 4.43,-4.069 ; 3.78,-8.291 3.8,-9.51 4.409,-9.53 ; 3.8,-8.27 4.399,-8.26 ; 3.851,-8.839 4.209,-8.829 ; 4.46,-6.149 5.151,-6.139 ; 4.801,-6.149 4.831,-7.371 ; 5.631,-7.341 5.631,-6.111 ; 6.919,-7.249 6.741,-7.361 6.449,-7.361 6.2,-7.16 6.149,-6.759 6.241,-6.34 6.48,-6.139 6.711,-6.119 6.98,-6.271

## Symbol_ESD-Logo_CopperTop [mm]
F.Cu:
  lines w0.254: -4.77,-2.751 -3.65,-3.343 ; -4.559,-2.222 -2.179,-3.36 ; -4.341,-1.661 -1.14,-3.312 ; -4.031,-1.201 -2.41,-1.991 -2.38,-1.991 ; -3.749,-0.653 -2.461,-1.382 ; -3.551,-0.163 -2.479,-0.752 ; -3.371,0.338 -2.629,-0.061 ; -2.51,1.968 -1.689,1.488 ; -2.461,0.569 -3.091,0.848 -5.151,-3.312 4.91,-3.391 0.869,-1.181 ; -2.38,0.579 -2.489,-1.102 -1.991,-2.771 -1.621,-2.352 -1.849,-1.481 -1.849,-0.422 -1.77,0.119 -1.72,0.168 -1.471,0.498 -0.63,1.128 -0.401,1.278 0.46,0.188 0.31,-0.323 -0.701,-1.593 -0.861,-2.372 -0.63,-2.682 -0.32,-2.022 0.191,-1.511 0.8,-0.98 ; -2.23,2.449 -1.311,1.819 -1.311,1.839 ; -2.05,2.959 -1.031,2.268 ; -1.88,1.138 -0.65,2.649 1.25,3.317 2.2,3.599 ; -1.869,1.158 -1.9,1.158 -2.761,1.587 0.211,7.379 2.09,3.647 ; -1.72,3.599 -0.45,2.809 -0.419,2.809 ; -1.539,-2.372 -0.02,-3.391 ; -1.519,0.14 -1.519,-0.803 -1.389,-1.641 -1.11,-1.872 -1.011,-1.562 -1.14,-0.163 -0.701,-0.371 -0.729,-0.98 -0.3,-0.442 -0.071,-0.572 ; -1.359,4.229 0.46,3.089 ; -1.11,0.648 -0.78,0.498 -0.419,0.617 0.061,0.089 0.239,-0.142 ; -1.011,4.869 1.199,3.419 ; -0.749,5.397 1.859,3.647 ; -0.65,0.93 0.061,0.419 ; -0.351,-2.301 1.021,-3.312 1.049,-3.312 ; -0.351,6.058 1.58,4.658 ; -0.221,-1.991 0.079,-2.172 0.109,-2.172 ; -0.089,6.667 0.95,5.928 ; 0.239,-1.841 2.169,-3.292 ; 0.31,-1.46 0.569,-1.811 ; 0.521,-1.46 3.259,-3.312 3.279,-3.312 ; 1.659,-0.541 2.169,0.29 2.499,0.828 2.779,1.257 3.109,1.389 ; 1.679,-0.622 1.61,-0.653 4.961,-2.471 3.16,1.308 ; 2.121,-0.041 4.379,-1.382 ; 2.451,0.569 4.1,-0.721 ; 2.7,1.029 3.541,0.399

## Symbol_GNU-GPL_CopperTop_Big [mm]
F.Cu:
  lines w0.254: -4.6,2.7 -3.701,2.7 -3.701,1.801 -4.201,1.6 -5.199,1.501 -6.2,1.9 -6.599,2.301 -6.701,3.401 -6.2,4.201 -5.301,4.501 -4.201,4.501 -3.8,4.3 ; -4.201,-1.501 -3.299,-1.6 -3.2,-2.601 -4.699,-2.901 -5.7,-2.4 -6.2,-1.801 -6.2,-1.001 -5.7,-0.201 -4.699,0.099 -3.2,0.099 -3.299,-0.099 -3.5,-0.099 -4,0 -4.6,0 -5.1,-0.099 -5.601,-0.3 -5.9,-0.701 -6.101,-1.199 -6.101,-1.501 -5.9,-1.999 -5.601,-2.2 -5.199,-2.499 -4.6,-2.601 -4,-2.601 -3.401,-2.499 -3.401,-1.699 -4.201,-1.699 -4.3,-1.501 -4.201,-1.3 -3.2,-1.3 -3,-1.4 -3,-2.601 -3.2,-2.799 -4,-3 -4.699,-3 -5.499,-2.799 -5.799,-2.601 -6.2,-2.2 -6.5,-1.501 -6.5,-1.1 -6.2,-0.399 -5.9,-0.099 -5.4,0.201 -4.6,0.399 -4,0.399 -3.599,0.3 -3.299,0.201 -3.299,0.099 ; -1.6,1.4 -1.6,1.3 -1.699,1.4 -1.699,4.501 -1.699,4.6 -1.501,4.699 1.001,2.101 1.1,2.4 1.1,4.501 1.3,4.699 1.501,4.6 1.501,1.4 1.3,1.3 1.1,1.4 -1.199,3.8 -1.4,3.5 -1.4,1.4 -1.501,1.3 -1.501,4.3 1.3,1.6 1.3,4.399 ; -0.701,-1.199 0.201,-1.199 0.899,-1.199 1.3,-1.1 1.6,-0.8 1.6,-0.399 1.501,-0.201 0.899,0 -0.8,0 -0.8,-1.199 -0.899,-1.199 0.899,-1.4 -0.899,-1.3 1.1,-1.199 1.699,-0.899 1.699,-0.399 0.899,0.099 -1.001,0.099 -1.001,-2.7 -1.199,-2.901 ; 3.701,4.501 3.701,1.9 4.6,1.501 5.601,1.501 6.299,1.801 6.5,2.301 6.5,4.6 ; 4,0.201 4,-2.7 6.401,-2.799 ; -1.199,-2.901 -1.199,0.3 -1.1,0.399 0.899,0.399 1.199,0.3 1.6,0.099 1.999,-0.3 1.999,-0.8 1.9,-1.1 1.501,-1.4 0.8,-1.6 -0.701,-1.6 -0.899,-1.699 -0.8,-1.699 -0.8,-2.901 -1.001,-3 -1.199,-2.901 ; -6.901,2.601 -6.901,3.401 -6.701,3.8 -6.401,4.201 -5.9,4.501 -5.001,4.699 -4.501,4.699 -4.1,4.6 -3.8,4.501 -3.8,4.201 -3.899,4.1 -4.399,4.3 -5.001,4.3 -5.499,4.201 -5.999,4.1 -6.401,3.701 -6.599,3.099 -6.599,2.799 -6.5,2.4 -6.2,2.101 -5.7,1.801 -5.1,1.699 -4.501,1.699 -4.1,1.801 -4.201,1.699 -3.899,1.9 -3.899,2.499 -4,2.601 -4.699,2.601 -4.801,2.7 -4.801,2.901 -4.6,3 -3.701,3 -3.5,2.901 -3.5,1.699 -3.899,1.4 -4.501,1.3 -5.199,1.3 -5.799,1.4 -6.299,1.699 -6.701,2.101 -6.901,2.601 ; 3.5,1.999 3.5,4.6 3.8,4.6 3.899,4.501 3.899,2.2 3.8,2.2 4,1.999 4,1.9 4.6,1.699 5.601,1.699 5.999,1.801 6.401,2.101 6.401,4.6 6.5,4.699 6.701,4.6 6.701,1.999 6.401,1.6 6.2,1.501 5.601,1.3 4.6,1.3 3.8,1.6 3.5,1.999 ; 3.8,-2.901 3.8,0.3 4,0.399 4.201,0.201 4.201,-2.4 4.1,-2.601 6.299,-2.601 6.5,-2.7 6.5,-2.901 6.401,-3 3.899,-3 3.8,-2.901

## Symbol_GNU-GPL_CopperTop_Small [mm]
F.Cu:
  lines w0.254: -2.301,1.3 -1.801,1.3 -1.801,0.8 -2.499,0.599 -3,0.8 -3.299,1.1 -3.401,1.501 -3.2,1.9 -2.799,2.101 -2.301,2.2 -1.999,2.101 ; -1.999,-1.3 -1.501,-1.3 -1.501,-1.801 -1.999,-1.9 -2.301,-1.9 -2.601,-1.801 -2.901,-1.6 -3,-1.199 -3,-0.899 -2.799,-0.599 -2.601,-0.5 -2.301,-0.399 -1.801,-0.399 -1.6,-0.5 ; -0.8,0.701 -0.8,2.2 0.701,0.701 0.701,2.2 ; -0.399,-1.9 -0.399,-0.399 0.5,-0.399 0.701,-0.399 0.899,-0.5 1.001,-0.701 1.001,-0.899 0.8,-1.1 0.5,-1.199 -0.399,-1.199 ; 1.801,2.2 1.801,0.899 2.101,0.701 2.4,0.701 2.799,0.701 3.099,0.8 3.299,0.899 3.299,2.2 ; 2.101,-0.3 2.101,-1.9 3.299,-1.9 ; -4.064,-2.54 -4.064,3.048 4.064,3.048 4.064,-2.54 -4.064,-2.54

## Symbol_GNU-Logo_CopperTop [mm]
F.Cu:
  lines w0.254: -5.751,-6.2 -5.499,-6.299 -5.55,-6.85 -5.951,-6.85 -6.251,-6.701 -6.401,-6.299 -6.401,-5.85 -6.2,-5.451 -5.751,-5.301 -5.55,-5.4 ; -4.801,-6.901 -4.801,-5.349 -3.95,-6.85 -3.95,-5.349 ; -3.251,-5.349 -3.251,-6.5 -3.099,-6.749 -2.751,-6.901 -2.451,-6.749 -2.349,-6.449 -2.349,-5.349 ; -3,0.249 -3,-0.351 -3.5,-1.1 -2.101,-0.551 -1.6,-0.201 -1.45,0.749 -0.851,1.3 ; -2.751,-0.851 -2.751,-1.349 -2.751,-1.849 -2.7,-2.25 -2.649,-2.649 -2.55,-3.051 -2.499,-3.35 -2.25,-3.599 -2.101,-3.8 -1.849,-4 ; -2.751,1.151 -3.749,0.351 -3.299,1.501 -4.249,0.701 -3.551,1.999 -4.6,1.349 -4.699,1.801 -3.401,2.149 -4.549,2.4 -3.299,2.799 -3.8,3.299 -2.751,3.051 -2.799,3.701 -1.699,3.2 ; -2.2,-0.851 -1.9,-1.3 -1.999,-1.75 -1.549,-2.05 -1.75,-2.7 -1.199,-3.099 -1.4,-3.8 -0.851,-4.249 ; -2.05,1.549 -1.549,1.849 -0.8,2.2 -0.45,2.2 ; -1.75,-4 -1.549,-3.95 ; -1.151,-1.049 -0.851,-1.1 -0.701,-1.349 -0.551,-1.849 -0.351,-2.2 -0.201,-2.4 0.249,-2.55 0.749,-2.601 1.199,-2.649 1.801,-2.55 ; -0.899,-4.351 -0.701,-4.75 -0.599,-5.05 -1.001,-5.151 -0.65,-5.499 -0.701,-5.799 -0.65,-5.951 ; -0.65,-6.101 -0.599,-5.999 ; -0.3,-0.45 -0.099,-0.399 0.099,-0.3 0.249,-0.3 0.551,-0.3 0.851,-0.45 ; -0.15,-3.701 -0.3,-4.1 -0.201,-4.3 0.051,-4.501 0.201,-4.699 0.15,-5.001 0.099,-5.199 0.15,-5.751 0.351,-5.951 ; 0,0.399 -0.399,0.201 -0.8,0.201 -1.001,0.45 -0.749,0.701 -0.3,0.599 0.051,0.45 ; 0,1.549 0.399,1.699 0.65,2.05 ; 0.45,-3.299 0.249,-3.749 0.551,-4.049 0.95,-4.249 0.899,-4.699 0.749,-5.1 0.899,-5.349 ; 0.599,-2.649 1.001,-2.901 1.25,-2.901 ; 0.65,0.551 0.701,0.099 0.851,-0.3 0.95,-0.45 ; 0.749,1.999 1.4,1.801 1.801,1.6 3.099,0.749 2.85,1.849 3.599,1.151 3.15,2.25 4.15,1.999 2.901,2.7 4.049,3.15 2.301,2.949 2.799,3.65 1.651,2.949 ; 0.851,2.301 1.1,2.25 ; 1.001,-0.5 1.1,-0.65 1.25,-0.8 1.4,-0.8 1.6,-0.701 1.801,-0.701 ; 1.1,3.5 1.549,2.901 1.9,2.799 2.349,2.799 2.7,2.751 2.901,2.349 2.949,2.05 2.649,1.801 2.349,1.75 1.999,1.9 1.549,2.2 1.3,2.4 1.001,2.55 0.599,2.55 0.099,2.301 -0.099,2.349 -0.399,2.499 -0.899,2.601 -1.4,2.55 -1.999,2.149 -2.451,1.699 -2.799,1.3 -3.251,1.45 -3.449,1.951 -3.35,2.601 -3.051,2.85 -2.601,3 -1.951,3.15 -1.6,3.099 -1.049,3.35 -0.851,3.701 -1.25,3.551 -1.9,3.599 -2.85,3.749 -3.251,3.701 -3.599,3.551 -4.201,3.15 -4.651,2.349 -4.75,1.651 -4.45,0.749 -3.899,0.249 -3.251,0 -2.499,1.199 -1.801,1.849 -1.199,2.301 -0.65,2.349 -0.201,2.149 0.201,2.05 0.65,2.2 1.1,2.101 1.699,1.801 1.9,1.549 2.601,0.45 2.901,-0.201 2.301,-0.3 1.849,0.099 ; 1.151,3.599 1.75,3.35 2.2,3.449 2.7,3.701 3.15,3.749 3.599,3.5 4.049,3.2 4.249,2.649 4.249,2.2 4.15,1.801 3.899,1.25 3.449,0.851 2.901,0.45 ; 1.199,0.599 1.349,0.95 1.75,0.851 1.849,0.65 1.75,0.399 1.3,0.5 ; 1.25,-2.949 1.501,-3.051 1.75,-3.051 1.549,-3.099 1.001,-3.2 0.95,-3.35 1.001,-3.551 1.199,-3.749 1.45,-3.95 1.549,-4.3 1.45,-4.6 1.3,-4.9 1.349,-4.9 ; 1.651,-1.4 1.75,-1.25 ; 1.699,-0.65 1.75,0 ; 1.75,-2.499 1.4,-2.301 1.25,-1.951 1.651,-1.849 1.801,-1.849 2.301,-0.851 2.149,-0.701 1.75,-0.701 ; 2.7,-6.2 3,-6.2 3,-6.701 2.55,-6.8 2.2,-6.65 2.05,-6.2 2.101,-5.7 2.4,-5.349 2.7,-5.301 2.949,-5.4 ; 3.65,-6.8 3.65,-5.349 4.201,-5.301 4.45,-5.499 4.549,-5.9 4.249,-6.05 3.749,-5.999 ; 5.199,-5.25 5.199,-6.85 5.9,-6.85 ; 0.051,-0.95 0.099,-1.349 0.351,-1.501 0.65,-1.501 0.749,-1.4 0.899,-1.151 0.45,-0.8 0.051,-0.95

## Symbol_GNU-Logo_SilkscreenTop [mm]
F.SilkS:
  drawing of 240 lines, arcs and shapes, not listed

## Symbol_HighVoltage_NoTriangle_2x5mm_Copper [mm]
F.Cu:
  region: -0.538,0.374 0.626,1 -0.029,-1.387 0.306,-1.183 -0.291,-2.07 -0.509,-1.023 -0.276,-1.343 0,0.389 -1.121,-0.208 -0.393,2.368 0.32,2.368
  lines w0.254: -0.49,0.65 -0.29,0.4 ; -0.38,-1.23 0.13,-1.32 ; -0.17,0.405 0.03,0.155